# Altium footprint library CAPMP3216X16N.PcbLib: 1 footprints
Each footprint in its own frame and in the unit in brackets; x right, y up, seen from the top. Pads: shape width x height; smd on the part's side, far side on the other; paste and mask are expansions set on the pad; w line width, h text height; cw(c..) or ccw(c..) is an arc to the next point about the centre after c.
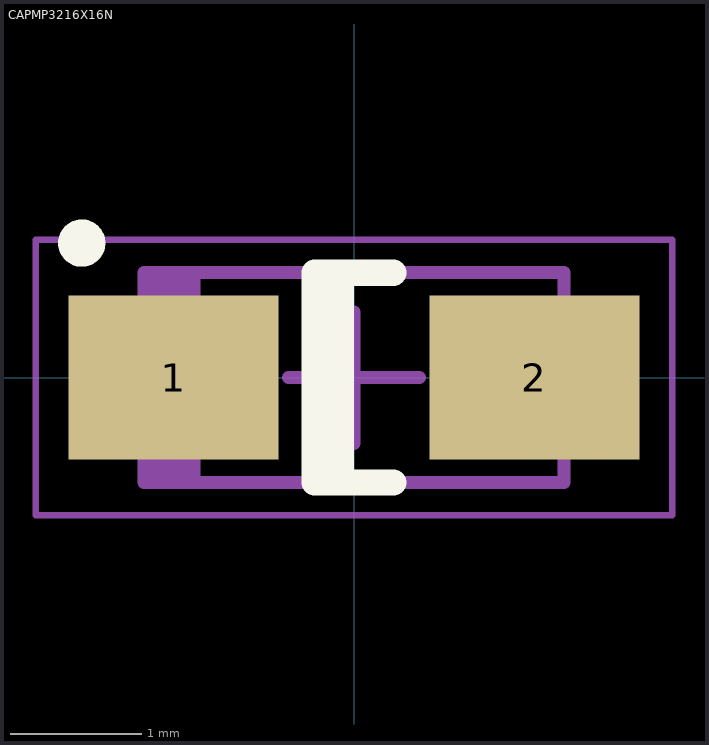
[diagram p0: the footprint, top view; thin cyan lines are the x and y axes]

## CAPMP3216X16N [mm] "Molded Capacitor, 2-Leads, Body 3.20x1.60mm, IPC Medium Density"
height 1.6
pads (2):
  rect 1.6x1.25 smd: 1(-1.375,0) 2(1.375,0)
Top Overlay:
  circle w0.2: c-2.075,1.025 r0.08
  rectangle: -0.3,-0.8 -0.1,0.8
  lines w0.2: -0.1,-0.8 -0.1,0.8 ; 0.3,-0.8 -0.3,-0.8 -0.3,0.8 0.3,0.8
Mechanical 13:
  rectangle: -1.6,-0.8 -1.17,0.8
  lines w0.1: -1.6,-0.8 -1.6,0.8 1.6,0.8 1.6,-0.8 -1.6,-0.8
Mechanical 15:
  lines w0.05: -2.425,-1.05 -2.425,1.05 2.425,1.05 2.425,-1.05 -2.425,-1.05
  lines w0.1: -0.5,0 0.5,0 ; 0,-0.5 0,0.5
3D body: height 1.6, standoff 0, extent -1.6,-0.8 1.6,0.8